# Altium integrated library 可控硅.IntLib: 4 symbols
Pins are listed as number, name and electrical type; pins without a type are passive.

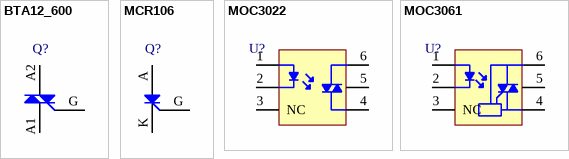
[diagram p0: symbols BTA12_600 to MOC3061]

## BTA12_600
designator Q?
双向可控硅
footprint TO263
footprint TO263
pins: A1, A2, G

## MCR106
designator Q?
单向可控硅
footprint TO126 (126晶体管)
pins: A, G, K

## MOC3022
designator U?
光可控硅
footprint DIP6
footprint DIP6_SS (DIP6-SMD Socket)
pins: 1 +, 2 -, 3 NC, 4, 5, 6

## MOC3061
designator U?
零点触发光可控硅
footprint DIP6
footprint DIP6_SS (DIP6-SMD Socket)
pins: 1 +, 2 -, 3 NC, 4, 5, 6